# Altium integrated library ICs.IntLib: 10 symbols
Pins are listed as number, name and electrical type; pins without a type are passive.

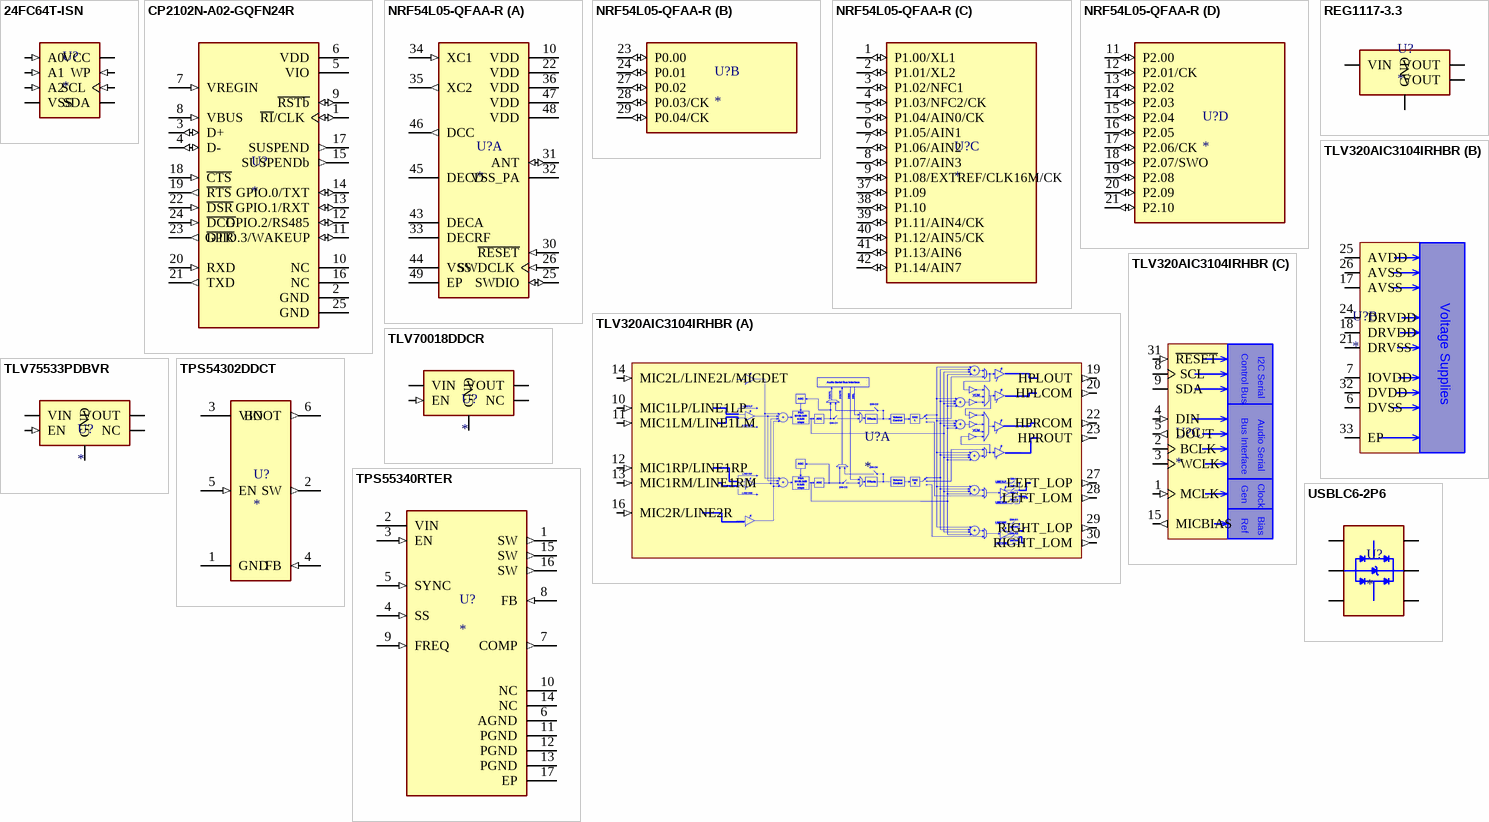
[diagram p0: symbols 24FC64T-ISN to USBLC6-2P6]

## 24FC64T-ISN
designator U?
IC EEPROM 64KBIT I2C 1MHZ 8SOIC / EEPROM Memory IC 64Kb (8K x 8) I²C 1 MHz 400 ns 8-SOIC
footprint SOIC127P600X175-8N
pins: 1 A0 (in), 2 A1 (in), 3 A2 (in), 4 VSS (power), 5 SDA (io), 6 SCL (in), 7 WP (in), 8 VCC (power)

## CP2102N-A02-GQFN24R
designator U?
Full Speed USB to UART Bridge USB 2.0 3.3V T/R Automotive Medical 24-Pin QFN EP; Manufacturer: Silicon Labs; Manufacturer Part Number: CP2102N-A02-GQFN24R; Value: *; Supplier: DigiKey; Supplier Part Number: 336-5888-1-ND; Package/Case: 24-VFQFN Exposed Pad
footprint QFN50P400X400X80-25N
pins: 1 ~{RI}/CLK (io), 2 GND (power), 3 D+ (io), 4 D- (io), 5 VIO (power), 6 VDD (power), 7 VREGIN (in), 8 VBUS (in), 9 ~{RSTb} (io), 10 NC, 11 GPIO.3/WAKEUP (io), 12 GPIO.2/RS485 (io), 13 GPIO.1/RXT (io), 14 GPIO.0/TXT (io), 15 SUSPENDb (out), 16 NC, 17 SUSPEND (out), 18 ~{CTS} (in), 19 ~{RTS} (out), 20 RXD (in), 21 TXD (out), 22 ~{DSR} (in), 23 ~{DTR} (out), 24 ~{DCD} (in), 25 GND (power)

## NRF54L05-QFAA-R
designator U?
NRF54L05 Series 500 kB Flash 2.4 GHz 802.15.4/Bluetooth Transceiver - QFN-48; Manufacturer: Nordic Semiconductor ASA; Manufacturer Part Number: NRF54L05-QFAA-R; Value: *; Supplier: DigiKey; Supplier Part Number: 4823-NRF54L05-QFAA-RCT-ND; Package/Case: QFN-48
footprint QFN40P600X600X90_HS-49N (QFN, 48-Leads, Body 6.00x6.00mm, Pitch 0.40mm, Thermal Pad 4.60x4.60mm, IPC Medium Density)
part A pins: 10 VDD (power), 22 VDD (power), 25 SWDIO (io), 26 SWDCLK (in), 30 ~{RESET} (in), 31 ANT (io), 32 VSS_PA (power), 33 DECRF (power), 34 XC1 (in), 35 XC2 (out), 36 VDD (power), 43 DECA (power), 44 VSS (power), 45 DECD (power), 46 DCC (out), 47 VDD (power), 48 VDD (power), 49 EP (power)
part B pins: 23 P0.00 (io), 24 P0.01 (io), 27 P0.02 (io), 28 P0.03/CK (io), 29 P0.04/CK (io)
part C pins: 1 P1.00/XL1 (io), 2 P1.01/XL2 (io), 3 P1.02/NFC1 (io), 4 P1.03/NFC2/CK (io), 5 P1.04/AIN0/CK (io), 6 P1.05/AIN1 (io), 7 P1.06/AIN2 (io), 8 P1.07/AIN3 (io), 9 P1.08/EXTREF/CLK16M/CK (io), 37 P1.09 (io), 38 P1.10 (io), 39 P1.11/AIN4/CK (io), 40 P1.12/AIN5/CK (io), 41 P1.13/AIN6 (io), 42 P1.14/AIN7 (io)
part D pins: 11 P2.00 (io), 12 P2.01/CK (io), 13 P2.02 (io), 14 P2.03 (io), 15 P2.04 (io), 16 P2.05 (io), 17 P2.06/CK (io), 18 P2.07/SWO (io), 19 P2.08 (io), 20 P2.09 (io), 21 P2.10 (io)

## REG1117-3.3
designator U?
800-mA, 15-V, linear voltage regulator 4-SOT-223 -40 to 125
footprint SOT230P700X180-4N
pins: 1 GND (power), 2 VOUT (power), 3 VIN (power), 4 VOUT

## TLV320AIC3104IRHBR
designator U?
Low-Power Stereo CODEC with 6 Inputs, 6 Outputs, HP Amp and Enhanced Digital Effects; Manufacturer Part Number: TLV320AIC3104IRHBR; Manufacturer: Texas Instruments; Value: *; Supplier Part Number: 296-26818-1-ND; Supplier: DigiKey; Package/Case: 32-VFQFN Exposed Pad
footprint QFN50P500X500X100_HS-33N (QFN, 32-Leads, Body 5.00x5.00mm, Pitch 0.50mm, Thermal Pad 3.45x3.45mm, IPC Medium Density)
part A pins: 10 MIC1LP/LINE1LP (in), 11 MIC1LM/LINE1LM (in), 12 MIC1RP/LINE1RP (in), 13 MIC1RM/LINE1RM (in), 14 MIC2L/LINE2L/MICDET (in), 16 MIC2R/LINE2R (in), 19 HPLOUT (out), 20 HPLCOM (out), 22 HPRCOM (out), 23 HPROUT (out), 27 LEFT_LOP (out), 28 LEFT_LOM (out), 29 RIGHT_LOP (out), 30 RIGHT_LOM (out)
part B pins: 6 DVSS (power), 7 IOVDD (power), 17 AVSS (power), 18 DRVDD (power), 21 DRVSS (power), 24 DRVDD (power), 25 AVDD (power), 26 AVSS (power), 32 DVDD (power), 33 EP (power)
part C pins: 1 MCLK (in), 2 BCLK (io), 3 WCLK (io), 4 DIN (in), 5 DOUT (out), 8 SCL (io), 9 SDA (io), 15 MICBIAS (out), 31 ~{RESET} (in)
part B text: Voltage Supplies
part C text: Control Bus; I2C Serial; Bus Interface; Audio Serial; Gen; Clock; Ref; Bias

## TLV70018DDCR
designator U?
200-mA, high-PSRR, low-IQ, low-dropout voltage regulator with enable 5-SOT-23-THIN -40 to 125; Manufacturer Part Number: TLV70018DDCR; Manufacturer: Texas Instruments; Value: *; Supplier Part Number: 296-32410-1-ND; Supplier: DigiKey; Package/Case: SOT-23-5
footprint SOT95P280X110-5N
pins: 1 VIN (power), 2 GND (power), 3 EN (in), 4 NC, 5 VOUT (power)

## TLV75533PDBVR
designator U?
500mA high-PSRR low-IQ low-dropout voltage regulator with enable 5-SOT-23 -40 to 125; Manufacturer Part Number: TLV75533PDBVR; Manufacturer: Texas Instruments; Value: *; Supplier: DigiKey; Supplier Part Number: 296-50411-1-ND; Package/Case: SOT-23-5
footprint SOT95P280X110-5N
pins: 1 VIN (power), 2 GND (power), 3 EN (in), 4 NC, 5 VOUT (power)

## TPS54302DDCT
designator U?
4.5-V to 28-V Input, 3-A Output, EMI Friendly Synchronous Step-Down Converter
footprint SOT95P280X110-6N
pins: 1 GND (power), 2 SW (out), 3 VIN (power), 4 FB (in), 5 EN (in), 6 BOOT (out)

## TPS55340RTER
designator U?
5-A, 40-V, wide VIN boost, flyback, & SEPIC converter 16-WQFN -40 to 150; Manufacturer Part Number: TPS55340RTER; Manufacturer: Texas Instruments; Value: *; Package/Case: 16-WQFN; Supplier Part Number: 296-37677-1-ND; Supplier: DigiKey
footprint QFN50P300X300X80-17N
pins: 1 SW (out), 2 VIN (power), 3 EN (in), 4 SS (in), 5 SYNC (in), 6 AGND (power), 7 COMP (out), 8 FB (in), 9 FREQ (in), 10 NC (power), 11 PGND (power), 12 PGND (power), 13 PGND (power), 14 NC (power), 15 SW (out), 16 SW (out), 17 EP (power)

## USBLC6-2P6
designator U?
Tvs Diodes & Esd Suppressors; USBLC6-2P6; Stmicroelectronics; 5 V; 17 V; 6 V; 6 V; Value: *; Manufacturer Part Number: USBLC6-2P6; Manufacturer: STMicroelectronics; Supplier Part Number: 497-5026-1-ND; Supplier: DigiKey; Package/Case: SOT-666
footprint SOT50P160X60-6N
pins: 1 I/O1_1 (io), 2 GND (power), 3 I/O2_1 (io), 4 I/O2_2 (io), 5 VBUS (power), 6 I/O1_2 (io)